# Altium footprint library CONNECTORS.PcbLib: 52 footprints (part 1 of 4)
Each footprint in its own frame and in the unit in brackets; x right, y up, seen from the top. Pads: shape width x height; smd on the part's side, far side on the other; paste and mask are expansions set on the pad; w line width, h text height; cw(c..) or ccw(c..) is an arc to the next point about the centre after c.
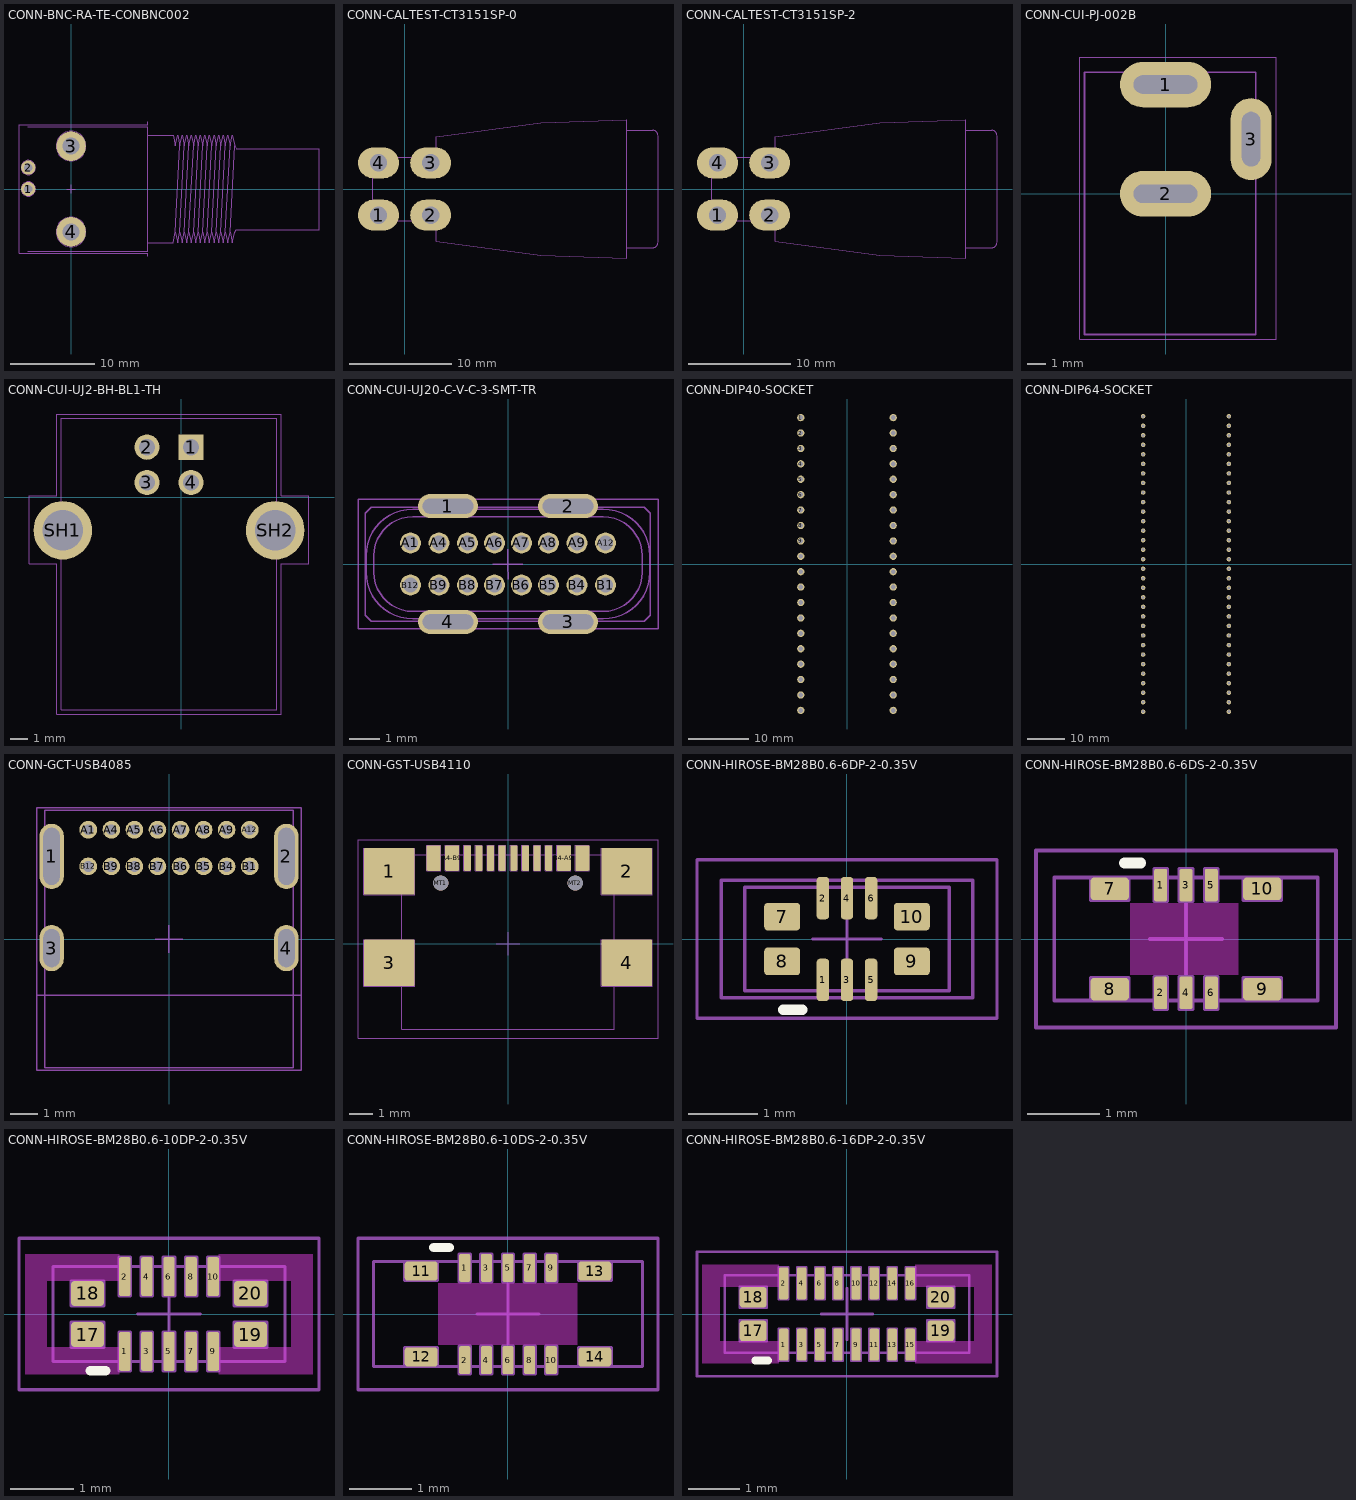
[diagram p0: the footprints below, top view; thin cyan lines are the x and y axes]

## CONN-BNC-RA-TE-CONBNC002 [mm]
pads (4):
  round 1.7 hole 1 paste-2539.97 mask+0.1: 1(-5.08,0) 2(-5.08,2.54)
  round 3.5 hole 2 paste-2539.97 mask+0.1: 3(0,5.08) 4(0,-5.08)
Top Courtyard:
  lines w0.05: -5.125,7.625 -6.175,7.625 ; -0.5,0 0,0 ; 0,-0.5 0,0 ; 0,0.5 0,0 ; 0.5,0 0,0 ; 9.075,-7.95 9.08,-7.95 9.08,-7.625 -6.175,-7.625 -6.175,7.625 ; 9.075,7.95 9.08,7.95 9.08,7.625 -6.175,7.625
Top Assembly:
  circle w0.05: c-5.08,0 r0.85
  circle w0.05: c-5.08,0 r0.531
  circle w0.05: c-5.08,2.54 r0.85
  circle w0.05: c-5.08,2.54 r0.555
  circle w0.05: c0,5.08 r1.75
  circle w0.05: c0,5.08 r1
  circle w0.05: c0,-5.08 r1.75
  circle w0.05: c0,-5.08 r1.025
  lines w0.05: -5.12,-7.375 9.08,-7.375 9.08,-6.35 ; -5.12,7.375 9.08,7.375 ; 9.08,-6.35 9.08,7.375 ; 9.08,-6.35 12.08,-6.35 12.35,-5.1 ; 9.08,7.375 9.08,6.35 12.08,6.35 12.35,5.1 12.62,6.35 12.89,5.1 ; 12.35,-5.1 12.89,5.1 ; 12.35,-5.1 12.62,-6.35 12.89,-5.1 ; 12.89,-5.1 13.431,5.1 ; 12.89,-5.1 13.16,-6.35 13.431,-5.1 ; 12.89,5.1 13.16,6.35 13.431,5.1 ; 13.431,-5.1 13.971,5.1 ; 13.431,-5.1 13.701,-6.35 13.971,-5.1 ; 13.431,5.1 13.701,6.35 13.971,5.1 ; 13.971,-5.1 14.511,5.1 ; 13.971,-5.1 14.241,-6.35 14.511,-5.1 ; 13.971,5.1 14.241,6.35 14.511,5.1 ; 14.511,-5.1 15.051,5.1 ; 14.511,-5.1 14.781,-6.35 15.051,-5.1 ; 14.511,5.1 14.781,6.35 15.051,5.1 ; 15.051,-5.1 15.592,5.1 ; 15.051,-5.1 15.321,-6.35 15.592,-5.1 ; 15.051,5.1 15.321,6.35 15.592,5.1 ; 15.592,-5.1 16.132,5.1 ; 15.592,-5.1 15.862,-6.35 16.132,-5.1 ; 15.592,5.1 15.862,6.35 16.132,5.1 ; 16.132,-5.1 16.672,5.1 ; 16.132,-5.1 16.402,-6.35 16.672,-5.1 ; 16.132,5.1 16.402,6.35 16.672,5.1 ; 16.672,-5.1 17.212,5.1 ; 16.672,-5.1 16.942,-6.35 17.212,-5.1 ; 16.672,5.1 16.942,6.35 17.212,5.1 ; 17.212,-5.1 17.753,5.1 ; 17.212,-5.1 17.483,-6.35 17.753,-5.1 ; 17.212,5.1 17.483,6.35 17.753,5.1 ; 17.753,-5.1 18.293,5.1 ; 17.753,-5.1 18.023,-6.35 18.293,-5.1 ; 17.753,5.1 18.023,6.35 18.293,5.1 ; 18.293,-5.1 18.833,5.1 ; 18.293,-5.1 18.563,-6.35 18.833,-5.1 ; 18.293,5.1 18.563,6.35 18.833,5.1 ; 18.833,-5.1 19.373,5.1 ; 18.833,-5.1 19.103,-6.35 19.373,-5.1 19.58,-4.8 29.38,-4.8 29.38,4.8 19.58,4.8 19.373,5.1 ; 18.833,5.1 19.103,6.35 19.373,5.1
3D body "CONBNC002.STEP": height 14.35, standoff -4.79, extent -5.82,-7.95 29.38,7.95

## CONN-CALTEST-CT3151SP-0 [mm] "CONN-CALTEST-CT3151SP-0"
pads (4):
  oval 4x3 hole 1.7: 1(-2.54,-2.54) 2(2.54,-2.54) 3(2.54,2.54) 4(-2.54,2.54)
Top Assembly:
  lines w0.05: 21.647,-5.715 24.187,-5.715 ccw(c24.187,-5.207) 24.695,-5.207 24.695,0 24.695,5.207 ccw(c24.187,5.207) 24.187,5.715 21.647,5.715 ; 21.647,-5.715 21.647,-6.731 13.265,-6.477 3.105,-5.08 3.105,-3.105 -3.105,-3.105 -3.105,0 -3.105,3.105 3.105,3.105 3.105,5.08 13.265,6.477 21.647,6.731 21.647,5.715 ; 21.647,-5.715 21.647,5.715
3D body "CT3151SP-0.STEP": height 14.35, standoff -3.14, extent -3.053,-6.75 24.647,6.75

## CONN-CALTEST-CT3151SP-2 [mm] "CONN-CALTEST-CT3151SP-2"
pads (4):
  oval 4x3 hole 1.7: 1(-2.54,-2.54) 2(2.54,-2.54) 3(2.54,2.54) 4(-2.54,2.54)
Top Assembly:
  lines w0.05: 21.647,-5.715 21.647,5.715 ; 21.647,-5.715 21.647,-6.731 13.265,-6.477 3.105,-5.08 3.105,-3.105 -3.105,-3.105 -3.105,0 -3.105,3.105 3.105,3.105 3.105,5.08 13.265,6.477 21.647,6.731 21.647,5.715 ; 21.647,-5.715 24.187,-5.715 ccw(c24.187,-5.207) 24.695,-5.207 24.695,0 24.695,5.207 ccw(c24.187,5.207) 24.187,5.715 21.647,5.715
3D body "User Library-ct3151sp-2-RED-300.step": height 14.35, standoff -3.04, extent -3.105,-6.731 24.695,6.731

## CONN-CUI-PJ-002B [mm] "CONN,BARREL JACK"
height 10.8
pads (3):
  oval 5x2.5 hole 1 slot 3.5 at 0 deg: 1(0,6) 2(0,0)
  oval 2.25x4.5 hole 1 slot 3 at 90 deg: 3(4.7,3)
Top Courtyard:
  lines w0.05: -4.7,-7.975 -4.7,7.5 6.075,7.5 6.075,-7.975 -4.7,-7.975
Top Assembly:
  lines w0.1: -4.445,-7.725 -4.445,6.675 4.955,6.675 4.955,-7.725 -4.445,-7.725
3D body "step_temp.STEP": height 11.01, standoff -3.48, extent -4.445,-7.677 4.955,6.723

## CONN-CUI-UJ2-BH-BL1-TH [mm] "CONN-CUI-UJ2-BH-BL1-TH"
pads (6):
  rect 1.428x1.428 hole 0.92 mask+0.05: 1(0.55,2.825)
  round 1.428 hole 0.92 mask+0.05: 2(-1.95,2.825) 3(-1.95,0.825) 4(0.55,0.825)
  round 3.316 hole 2.3 mask+0.05: SH1(-6.72,-1.885) SH2(5.32,-1.885)
Top Assembly:
  circle w0.05: c0.55,2.825 r0.2
  lines w0.05: -6.8,-12.045 -6.8,4.455 5.4,4.455 5.4,-12.045 -6.8,-12.045
Mechanical 15:
  lines w0.05: -8.62,-3.785 -7.05,-3.785 -7.05,-12.295 5.65,-12.295 5.65,-3.795 7.22,-3.795 7.22,0.085 5.65,0.085 5.65,4.705 -7.05,4.705 -7.05,0.085 -8.62,0.085 -8.62,-3.785
3D body "step_temp.STEP": height 10.3, standoff -3.9, extent -8.22,-12.13 6.78,4.32

## CONN-CUI-UJ2-BH-BL1-TH_1 [mm]

## CONN-CUI-UJ20-C-V-C-3-SMT-TR [mm] "CONN,USB-C,VERTICAL,TH"
height 10.5
pads (20):
  oval 2x0.8 hole 0.5 slot 1.7 at 0 deg paste-2539.97 mask+0.05: 1(-2,1.93) 2(2,1.93) 3(2,-1.93) 4(-2,-1.93)
  round 0.7 hole 0.5 paste-2539.97 mask+0.05: A1(-3.25,0.7) A4(-2.3,0.7) A5(-1.35,0.7) A6(-0.45,0.7) A7(0.45,0.7) A8(1.35,0.7) A9(2.3,0.7) A12(3.25,0.7) B1(3.25,-0.7) B4(2.3,-0.7) B5(1.35,-0.7) B6(0.45,-0.7) B7(-0.45,-0.7) B8(-1.35,-0.7) B9(-2.3,-0.7) B12(-3.25,-0.7)
Top Courtyard:
  lines w0.05: -0.5,0 0,0 ; 0,-0.5 0,0 ; 0,0.5 0,0 ; 0.5,0 0,0 ; -5,-2.15 5,-2.15 5,2.15 -5,2.15 -5,-2.15
Top Assembly:
  lines w0.05: -4.75,-1.7 -4.55,-1.9 4.55,-1.9 4.75,-1.7 4.75,1.7 4.55,1.9 -4.55,1.9 -4.75,1.7 -4.75,-1.7 ; -4.725,-0.275 ccw(c-3.175,-0.275) -3.175,-1.825 3.175,-1.825 ccw(c3.175,-0.275) 4.725,-0.275 4.725,0.275 ccw(c3.175,0.275) 3.175,1.825 -3.175,1.825 ccw(c-3.175,0.275) -4.725,0.275 -4.725,-0.275 ; -4.47,-0.28 ccw(c-3.17,-0.28) -3.17,-1.58 3.17,-1.58 ccw(c3.17,-0.28) 4.47,-0.28 4.47,0.28 ccw(c3.17,0.28) 3.17,1.58 -3.17,1.58 ccw(c-3.17,0.28) -4.47,0.28 -4.47,-0.28
3D body "step_temp.STEP": height 10.5, standoff -2, extent -4.75,-2.08 4.75,2.08

## CONN-DIP40-SOCKET [mm]
pads (40):
  round 1.2 hole 0.8 paste-2539.97 mask+0.15: 1(-7.62,24.13) 2(-7.62,21.59) 3(-7.62,19.05) 4(-7.62,16.51) 5(-7.62,13.97) 6(-7.62,11.43) 7(-7.62,8.89) 8(-7.62,6.35) 9(-7.62,3.81) 10(-7.62,1.27) 11(-7.62,-1.27) 12(-7.62,-3.81) 13(-7.62,-6.35) 14(-7.62,-8.89) 15(-7.62,-11.43) 16(-7.62,-13.97) 17(-7.62,-16.51) 18(-7.62,-19.05) 19(-7.62,-21.59) 20(-7.62,-24.13) 21(7.62,-24.13) 22(7.62,-21.59) 23(7.62,-19.05) 24(7.62,-16.51) 25(7.62,-13.97) 26(7.62,-11.43) 27(7.62,-8.89) 28(7.62,-6.35) 29(7.62,-3.81) 30(7.62,-1.27) 31(7.62,1.27) 32(7.62,3.81) 33(7.62,6.35) 34(7.62,8.89) 35(7.62,11.43) 36(7.62,13.97) 37(7.62,16.51) 38(7.62,19.05) 39(7.62,21.59) 40(7.62,24.13)

## CONN-DIP64-SOCKET [mm]
pads (64):
  round 1.2 / inner round 1.8 / far side round 1.8 hole 0.8 paste-2539.97 mask+0.1: 1(-11.43,39.37) 2(-11.43,36.83) 3(-11.43,34.29) 4(-11.43,31.75) 5(-11.43,29.21) 6(-11.43,26.67) 7(-11.43,24.13) 8(-11.43,21.59) 9(-11.43,19.05) 10(-11.43,16.51) 11(-11.43,13.97) 12(-11.43,11.43) 13(-11.43,8.89) 14(-11.43,6.35) 15(-11.43,3.81) 16(-11.43,1.27) 17(-11.43,-1.27) 18(-11.43,-3.81) 19(-11.43,-6.35) 20(-11.43,-8.89) 21(-11.43,-11.43) 22(-11.43,-13.97) 23(-11.43,-16.51) 24(-11.43,-19.05) 25(-11.43,-21.59) 26(-11.43,-24.13) 27(-11.43,-26.67) 28(-11.43,-29.21) 29(-11.43,-31.75) 30(-11.43,-34.29) 31(-11.43,-36.83) 32(-11.43,-39.37) 33(11.43,-39.37) 34(11.43,-36.83) 35(11.43,-34.29) 36(11.43,-31.75) 37(11.43,-29.21) 38(11.43,-26.67) 39(11.43,-24.13) 40(11.43,-21.59) 41(11.43,-19.05) 42(11.43,-16.51) 43(11.43,-13.97) 44(11.43,-11.43) 45(11.43,-8.89) 46(11.43,-6.35) 47(11.43,-3.81) 48(11.43,-1.27) 49(11.43,1.27) 50(11.43,3.81) 51(11.43,6.35) 52(11.43,8.89) 53(11.43,11.43) 54(11.43,13.97) 55(11.43,16.51) 56(11.43,19.05) 57(11.43,21.59) 58(11.43,24.13) 59(11.43,26.67) 60(11.43,29.21) 61(11.43,31.75) 62(11.43,34.29) 63(11.43,36.83) 64(11.43,39.37)

## CONN-GCT-USB4085 [mm]
pads (20):
  rrect100% 0.9x2.4 hole 2.1 slot 0.6 at 0 deg paste-2539.97 mask+0.05: 1(-4.325,3.045) 2(4.325,3.045)
  rrect100% 0.9x1.7 hole 1.4 slot 0.6 at 0 deg paste-2539.97 mask+0.05: 3(-4.325,-0.335) 4(4.325,-0.335)
  round 0.65 hole 0.4 paste-2539.97 mask+0.05: A1(-2.975,4.025) A4(-2.125,4.025) A5(-1.275,4.025) A6(-0.425,4.025) A7(0.425,4.025) A8(1.275,4.025) A9(2.125,4.025) A12(2.975,4.025) B1(2.975,2.675) B4(2.125,2.675) B5(1.275,2.675) B6(0.425,2.675) B7(-0.425,2.675) B8(-1.275,2.675) B9(-2.125,2.675) B12(-2.975,2.675)
Top Courtyard:
  lines w0.05: -0.5,0 0,0 ; 0,-0.5 0,0 ; 0,0.5 0,0 ; 0.5,0 0,0 ; -4.875,-4.835 4.875,-4.835 4.875,4.835 -4.875,4.835 -4.875,-4.835
Bottom Courtyard:
  lines w0.05: -4.875,-4.835 4.875,-4.835 4.875,4.835 -4.875,4.835 -4.875,-4.835
Top Assembly:
  lines w0.05: -4.875,-2.075 4.875,-2.075 ; -4.575,-4.735 4.575,-4.735 4.575,4.735 -4.575,4.735 -4.575,-4.735
3D body "Conn_GCT_USB4085-GF-A_eec.STEP": height 0.25, standoff 0, extent -4.875,-4.835 4.875,4.835

## CONN-GST-USB4110 [mm]
pads (18):
  rrect4% 2.18x2 smd paste+0 mask+0.05: 1(-5.11,3.105) 2(5.11,3.105) 3(-5.11,-0.825) 4(5.11,-0.825)
  rrect16% 0.6x1.1 smd paste+0 mask+0.05: A1-B12(-3.2,3.68) A4-B9(-2.4,3.68) B1-A12(3.2,3.68) B4-A9(2.4,3.68)
  rrect33% 0.3x1.1 smd paste+0 mask+0.05: A5(-1.25,3.68) A6(-0.25,3.68) A7(0.25,3.68) A8(1.25,3.68) B5(1.75,3.68) B6(0.75,3.68) B7(-0.75,3.68) B8(-1.75,3.68)
  round 0.65 hole 0.65 unplated paste-2539.97 mask+0.1: MT1(-2.89,2.605) MT2(2.89,2.605)
Top Courtyard:
  lines w0.05: -0.5,0 0.5,0 ; 0,-0.5 0,0.5 ; -6.45,-4.075 -6.45,4.475 6.45,4.475 6.45,-4.075 -6.45,-4.075
Top Assembly:
  lines w0.05: -3.35,4.23 -2.9,4.23 -2.9,3.13 -3.5,3.13 -3.5,4.23 -3.2,4.23 ; -2.55,4.23 -2.1,4.23 -2.1,3.13 -2.7,3.13 -2.7,4.23 -2.4,4.23 ; 2.25,4.23 2.7,4.23 2.7,3.13 2.1,3.13 2.1,4.23 2.4,4.23 ; 3.05,4.23 3.5,4.23 3.5,3.13 2.9,3.13 2.9,4.23 3.2,4.23 ; -6.2,-1.825 -6.2,0.175 -5.11,0.175 -4.02,0.175 -4.02,-1.825 -6.2,-1.825 ; -6.2,2.105 -6.2,4.105 -5.11,4.105 -4.02,4.105 -4.02,2.105 -6.2,2.105 ; -4.57,-3.675 -4.57,3.825 4.57,3.825 4.57,-3.675 -4.57,-3.675 ; -1.9,3.13 -1.9,4.23 -1.75,4.23 -1.6,4.23 -1.6,3.13 -1.9,3.13 ; -1.4,3.13 -1.4,4.23 -1.25,4.23 -1.1,4.23 -1.1,3.13 -1.4,3.13 ; -0.9,3.13 -0.9,4.23 -0.75,4.23 -0.6,4.23 -0.6,3.13 -0.9,3.13 ; -0.4,3.13 -0.4,4.23 -0.25,4.23 -0.1,4.23 -0.1,3.13 -0.4,3.13 ; 0.1,3.13 0.1,4.23 0.25,4.23 0.4,4.23 0.4,3.13 0.1,3.13 ; 0.6,3.13 0.6,4.23 0.75,4.23 0.9,4.23 0.9,3.13 0.6,3.13 ; 1.1,3.13 1.1,4.23 1.25,4.23 1.4,4.23 1.4,3.13 1.1,3.13 ; 1.6,3.13 1.6,4.23 1.75,4.23 1.9,4.23 1.9,3.13 1.6,3.13 ; 4.02,-1.825 4.02,0.175 5.11,0.175 6.2,0.175 6.2,-1.825 4.02,-1.825 ; 4.02,2.105 4.02,4.105 5.11,4.105 6.2,4.105 6.2,2.105 4.02,2.105
3D body "Conn_GCT_USB4110-GF-A_eec.STEP": height 3.21, standoff -0.75, extent -5.65,-3.675 5.65,4.005

## CONN-HIROSE-BM28B0.6-6DP-2-0.35V [mm]
height 0.6
pads (10):
  rrect55% 0.18x0.615 smd mask+0.05: 1(-0.35,-0.593) 2(-0.35,0.593) 3(0,-0.593) 4(0,0.593) 5(0.35,-0.593) 6(0.35,0.593)
  rrect25% 0.52x0.4 smd paste-1 mask+0.05: 7(-0.94,0.325) 8(-0.94,-0.325) 9(0.94,-0.325) 10(0.94,0.325)
Top Overlay:
  lines w0.15: -0.925,-1.025 -0.65,-1.025
Top Courtyard:
  lines w0.05: -0.5,0 0,0 ; 0,-0.5 0,0 ; 0,0.5 0,0 ; 0.5,0 0,0 ; -2.175,-1.15 2.175,-1.15 2.175,1.15 -2.175,1.15 -2.175,-1.15
Top Assembly:
  lines w0.05: -1.825,-0.85 -1.825,0.85 1.825,0.85 1.825,-0.85 -1.825,-0.85 ; -1.485,-0.75 -1.485,0.75 1.485,0.75 1.485,-0.75 -1.485,-0.75
  text "MATE ZONE" at 1.702,-0.44 h0.2
3D body "BM28-6DP.stp": height 0.47, standoff 0, extent -1.485,-0.75 1.485,0.75

## CONN-HIROSE-BM28B0.6-6DS-2-0.35V [mm]
height 0.6
pads (10):
  rrect30% 0.18x0.45 smd mask+0.05: 1(-0.35,0.745) 2(-0.35,-0.745) 3(0,0.745) 4(0,-0.745) 5(0.35,0.745) 6(0.35,-0.745)
  rrect30% 0.53x0.31 smd mask+0.05: 7(-1.055,0.694) 8(-1.055,-0.694) 9(1.055,-0.694) 10(1.055,0.694)
Top Layer keep-out:
  rectangle: -0.775,-0.5 0.725,0.5
Top Overlay:
  lines w0.15: -0.85,1.05 -0.625,1.05
Top Courtyard:
  lines w0.05: -0.5,0 0,0 ; 0,-0.5 0,0 ; 0,0.5 0,0 ; 0.5,0 0,0 ; -2.075,-1.225 1.3,-1.225 2.075,-1.225 2.075,1.225 -2.075,1.225 -2.075,-1.225
Top Assembly:
  lines w0.05: -1.825,-0.85 1.825,-0.85 1.825,0.85 -1.825,0.85 -1.825,-0.85 ; -1.32,-0.849 -1.32,-0.539 -1.055,-0.539 -0.79,-0.539 -0.79,-0.849 -1.32,-0.849 ; -1.32,0.539 -1.32,0.849 -1.055,0.849 -0.79,0.849 -0.79,0.539 -1.32,0.539 ; -0.44,-0.97 -0.44,-0.52 -0.35,-0.52 -0.26,-0.52 -0.26,-0.97 -0.44,-0.97 ; -0.44,0.52 -0.44,0.97 -0.35,0.97 -0.26,0.97 -0.26,0.52 -0.44,0.52 ; -0.09,-0.97 -0.09,-0.52 0,-0.52 0.09,-0.52 0.09,-0.97 -0.09,-0.97 ; -0.09,0.52 -0.09,0.97 0,0.97 0.09,0.97 0.09,0.52 -0.09,0.52 ; 0.26,-0.97 0.26,-0.52 0.35,-0.52 0.44,-0.52 0.44,-0.97 0.26,-0.97 ; 0.26,0.52 0.26,0.97 0.35,0.97 0.44,0.97 0.44,0.52 0.26,0.52 ; 0.79,-0.849 1.32,-0.849 1.32,-0.539 1.055,-0.539 0.79,-0.539 0.79,-0.849 ; 0.79,0.539 1.32,0.539 1.32,0.849 1.055,0.849 0.79,0.849 0.79,0.539
  text "1" at -0.44,0.52 h0.4
3D body "BM28-6DS.stp": height 0.6, standoff 0, extent -1.825,-0.85 1.825,0.85

## CONN-HIROSE-BM28B0.6-10DP-2-0.35V [mm]
height 0.6
pads (14):
  rrect30% 0.18x0.615 smd mask+0.05: 1(-0.7,-0.593) 2(-0.7,0.593) 3(-0.35,-0.593) 4(-0.35,0.593) 5(0,-0.593) 6(0,0.593) 7(0.35,-0.593) 8(0.35,0.593) 9(0.7,-0.593) 10(0.7,0.593)
  rrect30% 0.52x0.4 smd: 17(-1.29,-0.325) 18(-1.29,0.325) 19(1.29,-0.325) 20(1.29,0.325)
Top Overlay:
  lines w0.15: -1.25,-0.9 -1,-0.9
Keep-Out Layer:
  region: -0.79,0.525 -1.935,0.525 -1.935,-0.525 -0.79,-0.525 -0.79,-0.95 -2.275,-0.95 -2.275,0.95 -0.79,0.95
  region: 2.275,-0.95 0.79,-0.95 0.79,-0.525 1.935,-0.525 1.935,0.525 0.79,0.525 0.79,0.95 2.275,0.95
Top Courtyard:
  lines w0.05: -0.5,0 0.5,0 ; 0,-0.5 0,0.5 ; -2.375,-1.2 2.375,-1.2 2.375,1.201 -2.375,1.201 -2.375,-1.2
Top Assembly:
  lines w0.05: -1.835,-0.75 1.835,-0.75 1.835,0.75 -1.835,0.75 -1.835,-0.75 ; -1.55,-0.525 -1.03,-0.525 -1.03,-0.125 -1.29,-0.125 -1.55,-0.125 -1.55,-0.325 -1.55,-0.525 ; -1.55,0.125 -1.03,0.125 -1.03,0.325 -1.03,0.525 -1.29,0.525 -1.55,0.525 -1.55,0.125 ; -0.79,-0.9 -0.61,-0.9 -0.61,-0.285 -0.7,-0.285 -0.79,-0.285 -0.79,-0.9 ; -0.79,0.285 -0.79,0.9 -0.61,0.9 -0.61,0.285 -0.7,0.285 -0.79,0.285 ; -0.44,-0.9 -0.26,-0.9 -0.26,-0.285 -0.35,-0.285 -0.44,-0.285 -0.44,-0.9 ; -0.44,0.285 -0.44,0.9 -0.26,0.9 -0.26,0.285 -0.35,0.285 -0.44,0.285 ; -0.09,-0.9 0.09,-0.9 0.09,-0.285 0,-0.285 -0.09,-0.285 -0.09,-0.9 ; -0.09,0.285 -0.09,0.9 0.09,0.9 0.09,0.285 0,0.285 -0.09,0.285 ; 0.26,-0.9 0.44,-0.9 0.44,-0.285 0.35,-0.285 0.26,-0.285 0.26,-0.9 ; 0.26,0.285 0.26,0.9 0.44,0.9 0.44,0.285 0.35,0.285 0.26,0.285 ; 0.61,-0.9 0.61,-0.285 0.7,-0.285 0.79,-0.285 0.79,-0.9 0.61,-0.9 ; 0.61,0.285 0.7,0.285 0.79,0.285 0.79,0.9 0.61,0.9 0.61,0.285 ; 1.03,-0.525 1.29,-0.525 1.55,-0.525 1.55,-0.125 1.03,-0.125 1.03,-0.325 1.03,-0.525 ; 1.03,0.125 1.29,0.125 1.55,0.125 1.55,0.325 1.55,0.525 1.03,0.525 1.03,0.125
  text "1" at -0.61,-0.9 h0.2
3D body "BM28-10DP.stp": height 0.45, standoff -0.02, extent -1.832,-0.752 1.838,0.748

## CONN-HIROSE-BM28B0.6-10DS-2-0.35V [mm]
height 0.6
pads (14):
  rrect30% 0.18x0.45 smd mask+0.05: 1(-0.7,0.745) 2(-0.7,-0.745) 3(-0.35,0.745) 4(-0.35,-0.745) 5(0,0.745) 6(0,-0.745) 7(0.35,0.745) 8(0.35,-0.745) 9(0.7,0.745) 10(0.7,-0.745)
  rrect30% 0.53x0.31 smd mask+0.05: 11(-1.405,0.694) 12(-1.405,-0.694) 13(1.405,0.694) 14(1.405,-0.694)
Top Overlay:
  lines w0.15: -1.2,1.075 -0.95,1.075
Keep-Out Layer:
  rectangle: -1.135,-0.5 1.125,0.5
Top Courtyard:
  lines w0.05: -0.5,0 0,0 ; 0,-0.5 0,0 ; 0,0.5 0,0 ; 0.5,0 0,0 ; -2.425,-1.225 -2.425,1.225 2.425,1.225 2.425,-1.225 -2.425,-1.225
Top Assembly:
  lines w0.05: -2.175,-0.85 -2.175,0.85 2.175,0.85 2.175,-0.85 -2.175,-0.85 ; -1.67,-0.849 -1.14,-0.849 -1.14,-0.539 -1.405,-0.539 -1.67,-0.539 -1.67,-0.849 ; -1.67,0.539 -1.67,0.849 -1.14,0.849 -1.14,0.539 -1.405,0.539 -1.67,0.539 ; -0.79,-0.97 -0.61,-0.97 -0.61,-0.52 -0.7,-0.52 -0.79,-0.52 -0.79,-0.97 ; -0.79,0.52 -0.79,0.97 -0.61,0.97 -0.61,0.52 -0.7,0.52 -0.79,0.52 ; -0.44,-0.97 -0.26,-0.97 -0.26,-0.52 -0.35,-0.52 -0.44,-0.52 -0.44,-0.97 ; -0.44,0.52 -0.44,0.97 -0.26,0.97 -0.26,0.52 -0.35,0.52 -0.44,0.52 ; -0.09,-0.97 0.09,-0.97 0.09,-0.52 0,-0.52 -0.09,-0.52 -0.09,-0.97 ; -0.09,0.52 -0.09,0.97 0.09,0.97 0.09,0.52 0,0.52 -0.09,0.52 ; 0.26,-0.97 0.44,-0.97 0.44,-0.52 0.35,-0.52 0.26,-0.52 0.26,-0.97 ; 0.26,0.52 0.26,0.97 0.44,0.97 0.44,0.52 0.35,0.52 0.26,0.52 ; 0.61,-0.97 0.79,-0.97 0.79,-0.52 0.7,-0.52 0.61,-0.52 0.61,-0.97 ; 0.61,0.52 0.61,0.97 0.79,0.97 0.79,0.52 0.7,0.52 0.61,0.52 ; 1.14,-0.849 1.67,-0.849 1.67,-0.539 1.405,-0.539 1.14,-0.539 1.14,-0.849 ; 1.14,0.539 1.14,0.849 1.67,0.849 1.67,0.539 1.405,0.539 1.14,0.539
  text "1" at -0.801,0.528 h0.7
3D body "BM28-10DS.stp": height 0.58, standoff -0.02, extent -2.175,-0.85 2.175,0.85

## CONN-HIROSE-BM28B0.6-16DP-2-0.35V [mm]
height 0.6
pads (20):
  rrect30% 0.18x0.615 smd mask+0.05: 1(-1.225,-0.593) 2(-1.225,0.593) 3(-0.875,-0.593) 4(-0.875,0.593) 5(-0.525,-0.593) 6(-0.525,0.593) 7(-0.175,-0.593) 8(-0.175,0.593) 9(0.175,-0.593) 10(0.175,0.593) 11(0.525,-0.593) 12(0.525,0.593) 13(0.875,-0.593) 14(0.875,0.593) 15(1.225,-0.593) 16(1.225,0.593)
  rrect30% 0.52x0.4 smd: 17(-1.815,-0.325) 18(-1.815,0.325) 19(1.815,-0.325) 20(1.815,0.325)
Top Overlay:
  lines w0.15: -1.775,-0.9 -1.525,-0.9
Keep-Out Layer:
  region: -1.315,0.525 -2.46,0.525 -2.46,-0.525 -1.315,-0.525 -1.315,-0.95 -2.8,-0.95 -2.8,0.95 -1.315,0.95
  region: 2.8,-0.95 1.315,-0.95 1.315,-0.525 2.46,-0.525 2.46,0.525 1.315,0.525 1.315,0.95 2.8,0.95
Top Courtyard:
  lines w0.05: -0.5,0 0.5,0 ; 0,-0.5 0,0.5 ; -2.9,-1.2 -2.9,1.2 2.9,1.2 2.9,-1.2 -2.9,-1.2
Top Assembly:
  lines w0.05: -2.36,-0.75 2.36,-0.75 2.36,0.75 -2.36,0.75 -2.36,-0.75 ; -2.075,-0.525 -1.555,-0.525 -1.555,-0.125 -1.815,-0.125 -2.075,-0.125 -2.075,-0.325 -2.075,-0.525 ; -2.075,0.125 -1.555,0.125 -1.555,0.325 -1.555,0.525 -1.815,0.525 -2.075,0.525 -2.075,0.125 ; -1.315,-0.9 -1.135,-0.9 -1.135,-0.285 -1.225,-0.285 -1.315,-0.285 -1.315,-0.9 ; -1.315,0.285 -1.315,0.9 -1.135,0.9 -1.135,0.285 -1.225,0.285 -1.315,0.285 ; -0.965,-0.9 -0.785,-0.9 -0.785,-0.285 -0.875,-0.285 -0.965,-0.285 -0.965,-0.9 ; -0.965,0.285 -0.965,0.9 -0.785,0.9 -0.785,0.285 -0.875,0.285 -0.965,0.285 ; -0.615,-0.9 -0.435,-0.9 -0.435,-0.285 -0.525,-0.285 -0.615,-0.285 -0.615,-0.9 ; -0.615,0.285 -0.615,0.9 -0.435,0.9 -0.435,0.285 -0.525,0.285 -0.615,0.285 ; -0.265,-0.9 -0.085,-0.9 -0.085,-0.285 -0.175,-0.285 -0.265,-0.285 -0.265,-0.9 ; -0.265,0.285 -0.265,0.9 -0.085,0.9 -0.085,0.285 -0.175,0.285 -0.265,0.285 ; 0.085,-0.9 0.085,-0.285 0.175,-0.285 0.265,-0.285 0.265,-0.9 0.085,-0.9 ; 0.085,0.285 0.175,0.285 0.265,0.285 0.265,0.9 0.085,0.9 0.085,0.285 ; 0.435,-0.9 0.435,-0.285 0.525,-0.285 0.615,-0.285 0.615,-0.9 0.435,-0.9 ; 0.435,0.285 0.525,0.285 0.615,0.285 0.615,0.9 0.435,0.9 0.435,0.285 ; 0.785,-0.9 0.785,-0.285 0.875,-0.285 0.965,-0.285 0.965,-0.9 0.785,-0.9 ; 0.785,0.285 0.875,0.285 0.965,0.285 0.965,0.9 0.785,0.9 0.785,0.285 ; 1.135,-0.9 1.135,-0.285 1.225,-0.285 1.315,-0.285 1.315,-0.9 1.135,-0.9 ; 1.135,0.285 1.225,0.285 1.315,0.285 1.315,0.9 1.135,0.9 1.135,0.285 ; 1.555,-0.525 1.815,-0.525 2.075,-0.525 2.075,-0.125 1.555,-0.125 1.555,-0.325 1.555,-0.525 ; 1.555,0.125 1.815,0.125 2.075,0.125 2.075,0.325 2.075,0.525 1.555,0.525 1.555,0.125
  text "1" at -1.135,-0.9 h0.2
3D body "BM28-16DP.stp": height 0.48, standoff 0.01, extent -2.36,-0.75 2.36,0.75